# Altium schematic symbol library header 3 pin.SchLib: 1 symbol
Pins are listed as number, name and electrical type; pins without a type are passive.

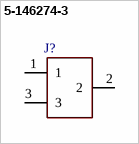
[diagram p0: symbol 5-146274-3]

## 5-146274-3
designator J?  (value not drawn)
03 MODII HDR SRST B/A .100CL; Centerline_Pitch: 2.54 mm[.1 in]; MF: TE Connectivity; Number_of_Positions: 3; Product_Type: Connector; Availability: Unavailable; Price: None; EU_RoHS_Compliance: Compliant; SnapEDA_Link: https://www.snapeda.com/parts/5-146274-3/TE%20Connectivity/view-part/?ref=snap; Link: http://www.te.com/usa-en/product-5-146274-3.html; Package: None; MP: 5-146274-3; Value: *
footprint TE_5-146274-3
pins: 1, 2, 3